# Altium schematic symbol library SchlibEEG.SchLib: 23 symbols
Pins are listed as number, name and electrical type; pins without a type are passive.

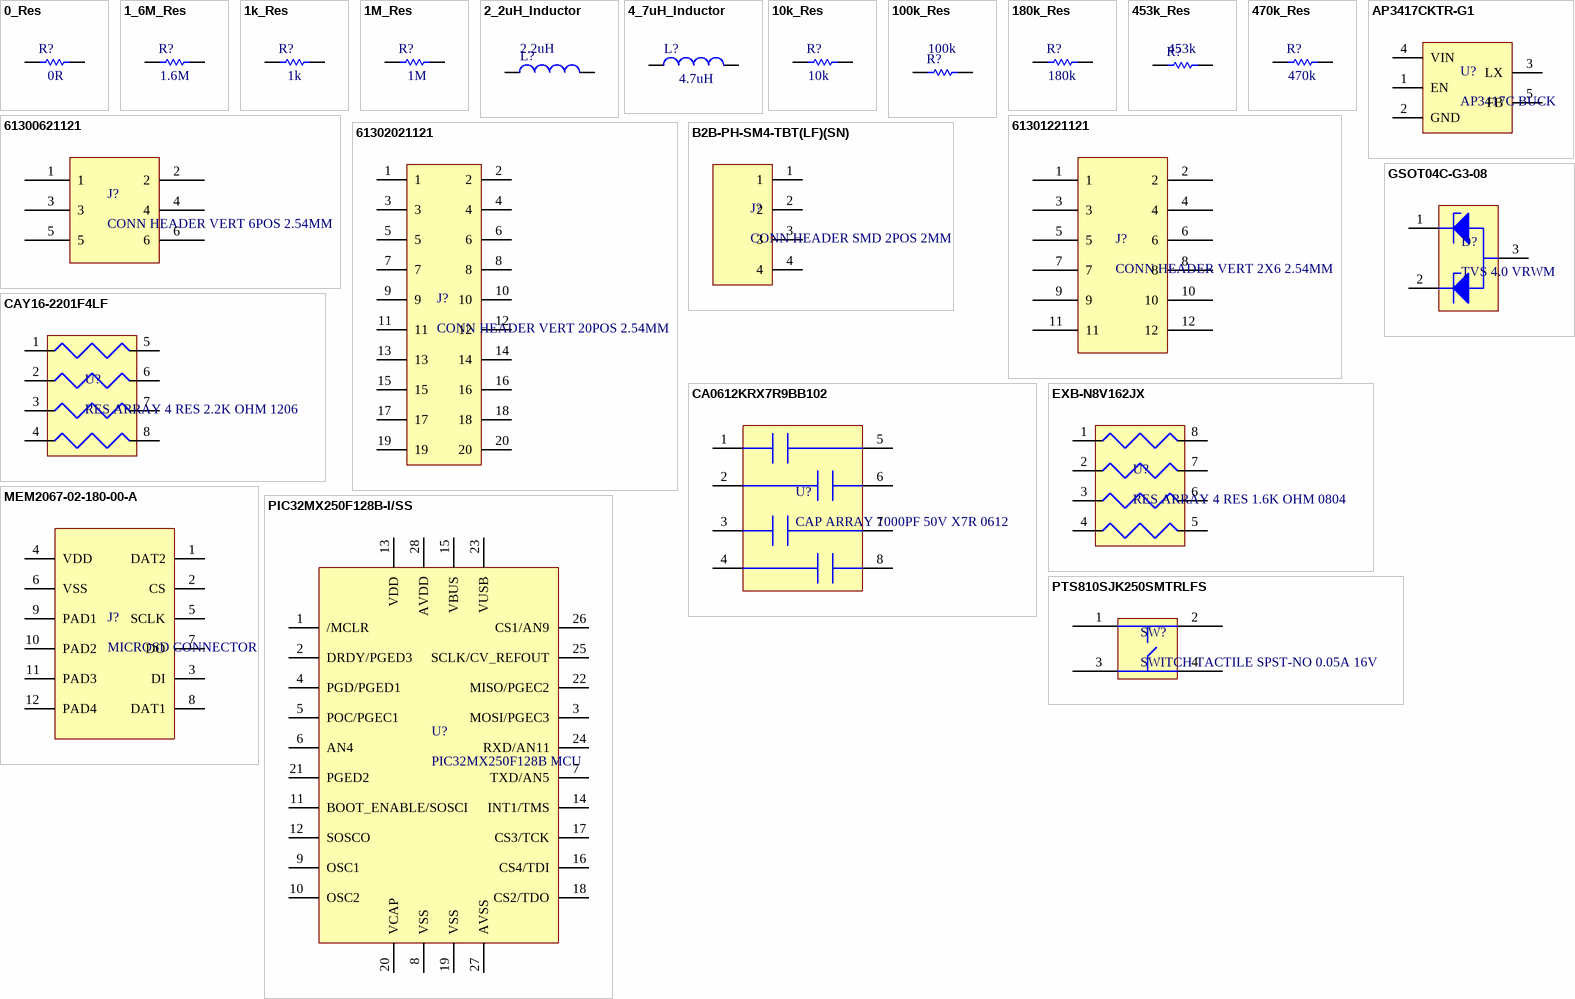
[diagram p0: symbols 0_Res to PTS810SJK250SMTRLFS]

## 0_Res
designator R?  value 0R
RES SMD 0 OHM JUMPER 1/16W 0402; Manufacturer: Yageo; Manufacturer Part Number: RC0402JR-070RL; Resistance: 0mR; Power Rating: 62.5mW; Tolerance: 5%; Voltage Rating: 50V; Max Power Dissipation: 63mW; Temperature Coefficient: 200ppm/°C; Supplier 1: Digi-Key; Stock 1: 50001357; Pricing 1: 1=0.1, 10=0.013, 25=0.0092, 50=0.0072, 100=0.0053, 250=0.004, 500=0.0032, 1000=0.00236, 5000=0.00169 (USD); Case/Package: 0402; Contact Plating: Tin,Matte; Case Code (Metric): 1005; Case Code (Imperial): 0402; Min Operating Temperature: -55°C; Max Operating Temperature: 155°C; Packaging: Tape and Reel; Composition: Thick Film; Package Quantity: 1; Number of Terminations: 2; Termination: SMD/SMT; Military Standard: Not; Features: Moisture Resistant; Length: 1mm; Height: 0.016inch; Width: 0.02inch; Depth: 0.5mm; Radiation Hardening: No; REACH SVHC: Unknown; Lead Free: Lead Free; ComponentLink1URL: http://www.yageo.com/documents/recent/PYu-RC_Group_51_RoHS_L_10.pdf?src-supplier=Digi-Key; ComponentLink1Description: http://www.yageo.com/documents/recent/PYu-RC_Group_51_RoHS_L_10.pdf?src-supplier=Digi-Key; ComponentLink2URL: http://www.yageo.com/documents/recent/PYu-RC0402_51_RoHS_L_6.pdf?src-supplier=Avnet+Europe; ComponentLink2Description: http://www.yageo.com/documents/recent/PYu-RC0402_51_RoHS_L_6.pdf?src-supplier=Avnet+Europe; ComponentLink3URL: http://www.farnell.com/datasheets/1018594.pdf?src-supplier=Element14; ComponentLink3Description: http://www.farnell.com/datasheets/1018594.pdf?src-supplier=Element14; ComponentLink4URL: https://www.verical.com/server-webapp/html/getDatasheet?partID=326379&src-supplier=Verical; ComponentLink4Description: https://www.verical.com/server-webapp/html/getDatasheet?partID=326379&src-supplier=Verical; ComponentLink5URL: http://www.farnell.com/datasheets/2167052.pdf?src-supplier=Element14; ComponentLink5Description: http://www.farnell.com/datasheets/2167052.pdf?src-supplier=Element14; Supplier Part Number 1: 311-0.0JRDKR-ND
simulation model RESISTOR (Resistor)
signal-integrity model Res
footprint 0402resistor
pins: 1, 2

## 1_6M_Res
designator R?  value 1.6M
RES SMD 1.6M OHM 5% 1/16W 0402; Manufacturer: Yageo; Manufacturer Part Number: RC0402JR-071M6L; Resistance: 1.6MR; Max Power Dissipation: 63mW; Temperature Coefficient: 100ppm/°C; Supplier 1: Digi-Key; Stock 1: 10969; Pricing 1: 1=0.1, 10=0.013, 100=0.0053, 1000=0.00236, 2500=0.00205, 5000=0.00169 (USD); Case/Package: 0402; Case Code (Metric): 1005; Case Code (Imperial): 0402; Contact Plating: Tin,Matte; Min Operating Temperature: -55°C; Max Operating Temperature: 155°C; Tolerance: 5%; Packaging: Tape and Reel; Composition: Thick Film; Number of Terminations: 2; Military Standard: Not; Features: Moisture Resistant; Length: 0.039inch; Height: 0.016inch; Width: 0.02inch; Depth: 0.5mm; Radiation Hardening: No; ComponentLink1URL: http://www.yageo.com/documents/recent/PYu-RC0402_51_RoHS_L_6.pdf?src-supplier=Avnet; ComponentLink1Description: http://www.yageo.com/documents/recent/PYu-RC0402_51_RoHS_L_6.pdf?src-supplier=Avnet; ComponentLink2URL: http://www.yageo.com/documents/recent/PYu-RC0402_51_RoHS_L_6.pdf?src-supplier=Avnet+Europe; ComponentLink2Description: http://www.yageo.com/documents/recent/PYu-RC0402_51_RoHS_L_6.pdf?src-supplier=Avnet+Europe; Supplier Part Number 1: YAG3284DKR-ND
simulation model RESISTOR (Resistor)
signal-integrity model Res
footprint 0402resistor
pins: 1, 2

## 1k_Res
designator R?  value 1k
RES SMD 1K OHM 1% 1/16W 0402; Manufacturer: Yageo; Manufacturer Part Number: RC0402FR-071KL; Resistance: 1kR; Power Rating: 62.5mW; Voltage Rating: 50V; Temperature Coefficient: 100ppm/°C; Supplier 1: Digi-Key; Stock 1: 39206337; Pricing 1: 1=0.1, 10=0.016, 100=0.0064, 1000=0.00289, 2500=0.00251, 5000=0.00207 (USD); Case/Package: 0402; Number of Pins: 2; Case Code (Imperial): 0402; Case Code (Metric): 1005; Min Operating Temperature: -55°C; Max Operating Temperature: 155°C; Tolerance: 1%; Packaging: Tape and Reel; Composition: Thick Film; Voltage Rating (DC): 50V; Termination: SMD/SMT; Military Standard: Not; Length: 1mm; Height: 0.32mm; Width: 0.5mm; Depth: 0.5mm; REACH SVHC: Unknown; Lead Free: Lead Free; ComponentLink1URL: http://documents.rs-components.com/techlib://itc_doclist_GB.htm?stockno=6186122&src-supplier=RSComponents; ComponentLink1Description: http://documents.rs-components.com/techlib://itc_doclist_GB.htm?stockno=6186122&src-supplier=RSComponents; ComponentLink2URL: http://www.mouser.com/ds/2/447/PYu-RC0402_51_RoHS_L_6_r-8721.pdf?src-supplier=Mouser; ComponentLink2Description: http://www.mouser.com/ds/2/447/PYu-RC0402_51_RoHS_L_6_r-8721.pdf?src-supplier=Mouser; ComponentLink3URL: http://www.yageo.com/documents/recent/PYu-RC0402_51_RoHS_L_6_r.pdf?src-supplier=Future+Electronics; ComponentLink3Description: http://www.yageo.com/documents/recent/PYu-RC0402_51_RoHS_L_6_r.pdf?src-supplier=Future+Electronics; ComponentLink4URL: http://www.farnell.com/datasheets/1018594.pdf?src-supplier=Element14; ComponentLink4Description: http://www.farnell.com/datasheets/1018594.pdf?src-supplier=Element14; ComponentLink5URL: http://www.farnell.com/datasheets/2167052.pdf?src-supplier=Element14; ComponentLink5Description: http://www.farnell.com/datasheets/2167052.pdf?src-supplier=Element14; Supplier Part Number 1: 311-1.00KLRCT-ND
simulation model RESISTOR (Resistor)
signal-integrity model Res
footprint 0402resistor
pins: 1, 2

## 1M_Res
designator R?  value 1M
RES SMD 1M OHM 1% 1/16W 0402; Manufacturer: Yageo; Manufacturer Part Number: RC0402FR-071ML; Resistance: 1MR; Power Rating: 63mW; Voltage Rating: 50V; Temperature Coefficient: 100ppm/°C; Supplier 1: Digi-Key; Stock 1: 10014545; Pricing 1: 1=0.1, 10=0.016, 100=0.0064, 1000=0.00289, 2500=0.00251, 5000=0.00207 (USD); Case/Package: 0402; Case Code (Imperial): 0402; Case Code (Metric): 1005; Min Operating Temperature: -55°C; Max Operating Temperature: 155°C; Packaging: Tape and Reel; Tolerance: 1%; Termination: SMD/SMT; Composition: Thick Film; Military Standard: Not; Length: 1mm; Height: 0.32mm; Depth: 0.5mm; REACH SVHC: Unknown; Lead Free: Lead Free; ComponentLink1URL: http://www.farnell.com/datasheets/1018594.pdf?src-supplier=Element14; ComponentLink1Description: http://www.farnell.com/datasheets/1018594.pdf?src-supplier=Element14; ComponentLink2URL: http://www.yageo.com/documents/recent/PYu-RC0402_51_RoHS_L_6_r.pdf?src-supplier=Future+Electronics; ComponentLink2Description: http://www.yageo.com/documents/recent/PYu-RC0402_51_RoHS_L_6_r.pdf?src-supplier=Future+Electronics; ComponentLink3URL: http://www.farnell.com/datasheets/2167052.pdf?src-supplier=Element14; ComponentLink3Description: http://www.farnell.com/datasheets/2167052.pdf?src-supplier=Element14; Supplier Part Number 1: 311-1.00MLRCT-ND
simulation model RESISTOR (Resistor)
signal-integrity model Res
footprint 0402resistor
pins: 1, 2

## 2_2uH_Inductor
designator L?  value 2.2uH
FIXED IND 2.2UH 500MA 250 MOHM; Manufacturer: TDK; Manufacturer Part Number: MLZ1608A2R2WT000; Core Material: Ferrite; Tolerance: 20%; Saturation Current: 130mA; Shielding: Shielded; DC Resistance (DCR): 325mR; Self Resonant Frequency: 120MHz; Test Frequency: 10MHz; Supplier 1: Digi-Key; Stock 1: 11492; Pricing 1: 1=0.17, 10=0.155, 100=0.1035, 500=0.08626, 1000=0.07245 (USD); Mount: Surface Mount; Case/Package: 0603; Case Code (Metric): 1608; Case Code (Imperial): 0603; Min Operating Temperature: -55°C; Max Operating Temperature: 125°C; Package Quantity: 4000; Packaging: Tape and Reel; Current Rating: 500mA; Inductance: 2.2uH; Length: 0.063inch; Width: 0.031inch; Height - Seated (Max): 0.037inch; Lead Free: Lead Free; ComponentLink1URL: https://product.tdk.com/info/en/catalog/datasheets/inductor_commercial_decoupling_mlz1608_en.pdf?src-supplier=Digi-Key; ComponentLink1Description: https://product.tdk.com/info/en/catalog/datasheets/inductor_commercial_decoupling_mlz1608_en.pdf?src-supplier=Digi-Key; Supplier Part Number 1: 445-6385-6-ND
simulation model INDUCTOR (Inductor)
signal-integrity model Inductor
footprint 0603INDUCTOR
pins: 1, 2

## 4_7uH_Inductor
designator L?  value 4.7uH
Inductor; Manufacturer: TDK; Manufacturer Part Number: MLZ1608M4R7WT000; Core Material: Ferrite; Tolerance: 20%; Current Rating: 350mA; Saturation Current: 120mA; Shielding: Shielded; DC Resistance (DCR): 650mR; Test Frequency: 2MHz; Self Resonant Frequency: 80MHz; Supplier 1: Digi-Key; Stock 1: 1557; Pricing 1: 1=0.17, 10=0.155, 100=0.1035, 500=0.08626, 1000=0.07245 (USD); Mount: Surface Mount; Case/Package: 0603; Case Code (Metric): 1608; Case Code (Imperial): 0603; Min Operating Temperature: -55°C; Max Operating Temperature: 125°C; Package Quantity: 4000; Packaging: Tape and Reel; Inductance: 4.7uH; Length: 0.063inch; Width: 0.031inch; Height - Seated (Max): 0.037inch; ComponentLink1URL: https://product.tdk.com/info/en/catalog/datasheets/inductor_commercial_decoupling_mlz1608_en.pdf?src-supplier=Digi-Key; ComponentLink1Description: https://product.tdk.com/info/en/catalog/datasheets/inductor_commercial_decoupling_mlz1608_en.pdf?src-supplier=Digi-Key; Supplier Part Number 1: 445-6390-6-ND
simulation model INDUCTOR (Inductor)
signal-integrity model Inductor
footprint 0603INDUCTOR
pins: 1, 2

## 10k_Res
designator R?  value 10k
RES SMD 10K OHM 1% 1/16W 0402; Manufacturer: Yageo; Manufacturer Part Number: RC0402FR-0710KL; Resistance: 10kR; Temperature Coefficient: 100ppm/°C; Voltage Rating: 50V; Power Rating: 62.5mW; Supplier 1: Digi-Key; Stock 1: 49944724; Pricing 1: 1=0.1, 10=0.016, 100=0.0064, 1000=0.00289, 2500=0.00251, 5000=0.00207 (USD); Case/Package: 0402; Number of Pins: 2; Case Code (Imperial): 0402; Case Code (Metric): 1005; Min Operating Temperature: -55°C; Max Operating Temperature: 155°C; Tolerance: 1%; Packaging: Tape and Reel; Composition: Thick Film; Voltage Rating (DC): 50V; Termination: SMD/SMT; Military Standard: Not; Working Voltage: 50V; Number of Terminations: 2; Length: 1mm; Height: 0.32mm; Width: 0.5mm; Depth: 0.5mm; Lead Pitch: 0.2mm; REACH SVHC: No SVHC; Lead Free: Lead Free; ComponentLink1URL: http://www.farnell.com/datasheets/2167052.pdf?src-supplier=Element14; ComponentLink1Description: http://www.farnell.com/datasheets/2167052.pdf?src-supplier=Element14; ComponentLink2URL: http://www.farnell.com/datasheets/1686128.pdf?src-supplier=Element14; ComponentLink2Description: http://www.farnell.com/datasheets/1686128.pdf?src-supplier=Element14; ComponentLink3URL: http://www.farnell.com/datasheets/1784430.pdf?src-supplier=Element14; ComponentLink3Description: http://www.farnell.com/datasheets/1784430.pdf?src-supplier=Element14; ComponentLink4URL: http://www.yageo.com/documents/recent/PYu-RC_Group_51_RoHS_L_9.pdf?src-supplier=Mouser; ComponentLink4Description: http://www.yageo.com/documents/recent/PYu-RC_Group_51_RoHS_L_9.pdf?src-supplier=Mouser; Supplier Part Number 1: 311-10.0KLRCT-ND
simulation model RESISTOR (Resistor)
signal-integrity model Res
footprint 0402resistor
pins: 1, 2

## 100k_Res
designator R?  value 100k
RES SMD 100K OHM 1% 1/16W 0402; Manufacturer: Yageo; Manufacturer Part Number: RC0402FR-07100KL; Resistance: 100kR; Temperature Coefficient: 100ppm/°C; Power Rating: 63mW; Voltage Rating: 50V; Published: 8-Jun-2000; LatestRevisionDate: 17-Jul-2002; LatestRevisionNote: Re-released for DXP Platform.; PackageReference: AXIAL-0.3; Publisher: Altium Limited; PackageDescription: Axial Device, Thru-Hole; 2 Leads; 0.3 in Pin Spacing; Supplier 1: Digi-Key; Stock 1: 46714463; Pricing 1: 1=0.1, 10=0.016, 100=0.0064, 1000=0.00289, 2500=0.00251, 5000=0.00207 (USD); Case/Package: 0402; Case Code (Metric): 1005; Case Code (Imperial): 0402; Min Operating Temperature: -55°C; Max Operating Temperature: 155°C; Tolerance: 1%; Packaging: Tape and Reel; Composition: Thick Film; Termination: SMD/SMT; Military Standard: Not; Number of Terminations: 2; Working Voltage: 50V; Package Quantity: 1; Max Power Dissipation: 63mW; Features: Moisture Resistant; Length: 0.039inch; Height: 0.016inch; Width: 0.02inch; Depth: 0.5mm; REACH SVHC: No SVHC; Lead Free: Lead Free; ComponentLink1URL: http://www.yageo.com/documents/recent/PYu-RC_Group_51_RoHS_L_10.pdf?src-supplier=Digi-Key; ComponentLink1Description: http://www.yageo.com/documents/recent/PYu-RC_Group_51_RoHS_L_10.pdf?src-supplier=Digi-Key; ComponentLink2URL: http://www.farnell.com/datasheets/1018594.pdf?src-supplier=Element14; ComponentLink2Description: http://www.farnell.com/datasheets/1018594.pdf?src-supplier=Element14; ComponentLink3URL: http://www.yageo.com/documents/recent/PYu-RC_Group_51_RoHS_L_9.pdf?src-supplier=Verical; ComponentLink3Description: http://www.yageo.com/documents/recent/PYu-RC_Group_51_RoHS_L_9.pdf?src-supplier=Verical; ComponentLink4URL: http://www.yageo.com/documents/recent/PYu-RC_Group_51_RoHS_L_9.pdf?src-supplier=Mouser; ComponentLink4Description: http://www.yageo.com/documents/recent/PYu-RC_Group_51_RoHS_L_9.pdf?src-supplier=Mouser; ComponentLink5URL: http://documents.rs-components.com/techlib://itc_doclist_GB.htm?stockno=6185797&src-supplier=RSComponents; ComponentLink5Description: http://documents.rs-components.com/techlib://itc_doclist_GB.htm?stockno=6185797&src-supplier=RSComponents; Supplier Part Number 1: 311-100KLRCT-ND
simulation model RESISTOR (Resistor)
signal-integrity model Res
footprint 0402resistor
pins: 1, 2

## 180k_Res
designator R?  value 180k
RES SMD 180K OHM 5% 1/16W 0402; Manufacturer: Yageo; Manufacturer Part Number: RC0402JR-07180KL; Resistance: 180kR; Power Rating: 63mW; Voltage Rating: 50V; Temperature Coefficient: 100ppm/°C; Supplier 1: Digi-Key; Stock 1: 33910; Pricing 1: 1=0.1, 10=0.013, 100=0.0053, 1000=0.00236, 2500=0.00205, 5000=0.00169 (USD); Case/Package: 0402; Number of Pins: 2; Case Code (Imperial): 0402; Case Code (Metric): 1005; Min Operating Temperature: -55°C; Max Operating Temperature: 155°C; Tolerance: 5%; Voltage Rating (DC): 50V; Packaging: Tape and Reel; Package Quantity: 1; Termination: SMD/SMT; Composition: Thick Film; Number of Terminations: 2; Military Standard: Not; Max Power Dissipation: 63mW; Features: Moisture Resistant; Length: 1mm; Height: 0.016inch; Width: 0.5mm; Depth: 0.5mm; REACH SVHC: Unknown; Lead Free: Lead Free; ComponentLink1URL: http://www.farnell.com/datasheets/1018594.pdf?src-supplier=Farnell; ComponentLink1Description: http://www.farnell.com/datasheets/1018594.pdf?src-supplier=Farnell; ComponentLink2URL: http://www.yageo.com/documents/recent/PYu-RC0402_51_RoHS_L_6_r.pdf?src-supplier=Future+Electronics; ComponentLink2Description: http://www.yageo.com/documents/recent/PYu-RC0402_51_RoHS_L_6_r.pdf?src-supplier=Future+Electronics; ComponentLink3URL: http://www.farnell.com/datasheets/1018594.pdf?src-supplier=Element14; ComponentLink3Description: http://www.farnell.com/datasheets/1018594.pdf?src-supplier=Element14; ComponentLink4URL: http://www.yageo.com/documents/recent/PYu-RC_Group_51_RoHS_L_9.pdf?src-supplier=Digi-Key; ComponentLink4Description: http://www.yageo.com/documents/recent/PYu-RC_Group_51_RoHS_L_9.pdf?src-supplier=Digi-Key; ComponentLink5URL: http://www.yageo.com.tw/exep/pages/download/literatures/PYu-R_INT-thick_7.pdf?src-supplier=Digi-Key; ComponentLink5Description: http://www.yageo.com.tw/exep/pages/download/literatures/PYu-R_INT-thick_7.pdf?src-supplier=Digi-Key; Supplier Part Number 1: 311-180KJRDKR-ND
simulation model RESISTOR (Resistor)
signal-integrity model Res
footprint 0402resistor
pins: 1, 2

## 453k_Res
designator R?  value 453k
RES SMD 453K OHM 1% 1/16W 0402; Manufacturer: Yageo; Manufacturer Part Number: RC0402FR-07453KL; Description: Thick Film Resistors - SMD 453K OHM 1%; Resistance: 453kR; Power Rating: 62.5mW; Voltage Rating: 50V; Max Power Dissipation: 63mW; Temperature Coefficient: 100ppm/°C; Supplier 1: Digi-Key; Stock 1: 641723; Pricing 1: 1=0.1, 10=0.016, 100=0.0064, 1000=0.00289, 2500=0.00251, 5000=0.00207 (USD); Case/Package: 0402; Case Code (Imperial): 0402; Case Code (Metric): 1005; Contact Plating: Tin,Matte; Min Operating Temperature: -55°C; Max Operating Temperature: 155°C; Tolerance: 1%; Packaging: Tape and Reel; Composition: Thick Film; Number of Terminations: 2; Termination: SMD/SMT; Military Standard: Not; Voltage Rating (DC): 50V; Features: Moisture Resistant; Length: 1mm; Height: 0.016inch; Width: 0.02inch; Depth: 0.5mm; Lead Free: Lead Free; ComponentLink1URL: http://www.yageo.com/documents/recent/PYu-RC0402_51_RoHS_L_6_r.pdf?src-supplier=Future+Electronics; ComponentLink1Description: http://www.yageo.com/documents/recent/PYu-RC0402_51_RoHS_L_6_r.pdf?src-supplier=Future+Electronics; ComponentLink2URL: https://www.verical.com/server-webapp/html/getDatasheet?partID=325135&src-supplier=Verical; ComponentLink2Description: https://www.verical.com/server-webapp/html/getDatasheet?partID=325135&src-supplier=Verical; ComponentLink3URL: http://www.yageo.com/documents/recent/PYu-RC0402_51_RoHS_L_6.pdf?src-supplier=Avnet; ComponentLink3Description: http://www.yageo.com/documents/recent/PYu-RC0402_51_RoHS_L_6.pdf?src-supplier=Avnet; ComponentLink4URL: http://www.yageo.com/documents/recent/PYu-RC0402_51_RoHS_L_6.pdf?src-supplier=Avnet+Europe; ComponentLink4Description: http://www.yageo.com/documents/recent/PYu-RC0402_51_RoHS_L_6.pdf?src-supplier=Avnet+Europe; Supplier Part Number 1: YAG3164DKR-ND
simulation model RESISTOR (Resistor)
signal-integrity model Res
footprint 0402resistor
pins: 1, 2

## 470k_Res
designator R?  value 470k
RES SMD 470K OHM 5% 1/16W 0402; Manufacturer: Yageo; Manufacturer Part Number: RC0402JR-07470KL; Power Rating: 62.5mW; Voltage Rating: 50V; Temperature Coefficient: 100ppm/°C; Max Power Dissipation: 63mW; Resistance: 470kR; Supplier 1: Digi-Key; Stock 1: 1646167; Pricing 1: 1=0.1, 10=0.013, 100=0.0053, 1000=0.00236, 2500=0.00205, 5000=0.00169 (USD); Case/Package: 0402; Case Code (Metric): 1005; Case Code (Imperial): 0402; Min Operating Temperature: -55°C; Max Operating Temperature: 155°C; Package Quantity: 10000; Tolerance: 5%; Packaging: Tape and Reel; Composition: Thick Film; Number of Terminations: 2; Termination: SMD/SMT; Military Standard: Not; Working Voltage: 50V; Features: Moisture Resistant; Length: 1mm; Height: 0.016inch; Width: 0.02inch; Depth: 0.5mm; REACH SVHC: No SVHC; Lead Free: Lead Free; ComponentLink1URL: http://www.yageo.com/documents/recent/PYu-RC_Group_51_RoHS_L_10.pdf?src-supplier=Digi-Key; ComponentLink1Description: http://www.yageo.com/documents/recent/PYu-RC_Group_51_RoHS_L_10.pdf?src-supplier=Digi-Key; ComponentLink2URL: http://www.farnell.com/datasheets/2167052.pdf?src-supplier=Element14; ComponentLink2Description: http://www.farnell.com/datasheets/2167052.pdf?src-supplier=Element14; ComponentLink3URL: http://www.yageo.com/documents/recent/PYu-RC_Group_51_RoHS_L_9.pdf?src-supplier=Digi-Key; ComponentLink3Description: http://www.yageo.com/documents/recent/PYu-RC_Group_51_RoHS_L_9.pdf?src-supplier=Digi-Key; ComponentLink4URL: http://www.mouser.com/ds/2/447/PYu-RC0402_51_RoHS_L_6_r-8721.pdf?src-supplier=Mouser; ComponentLink4Description: http://www.mouser.com/ds/2/447/PYu-RC0402_51_RoHS_L_6_r-8721.pdf?src-supplier=Mouser; Supplier Part Number 1: 311-470KJRDKR-ND
simulation model RESISTOR (Resistor)
signal-integrity model Res
footprint 0402resistor
pins: 1, 2

## 61300621121
designator J?, comment CONN HEADER VERT 6POS 2.54MM
WURTH ELEKTRONIK         61300621121            Board-To-Board Connector, Vertical, WR-PHD Series, Through Hole, Header, 6 Contacts, 2.54 mm; Manufacturer: Wurth Electronics; Number of Positions: 6; Gender: Male; Connector Type: Male Pin; Pitch: 0.1inch; Supplier 1: Digi-Key; Manufacturer Part Number: 61300621121; Stock 1: 2655; Pricing 1: 1=0.54, 10=0.454, 25=0.3792, 50=0.316, 100=0.287, 1000=0.261 (USD); Mount: Through Hole; Contact Plating: Gold; Contact Material: Copper; Color: Black; Number of Rows: 2; Packaging: Bulk; Termination: Solder; Number of Contacts: 6; Row Spacing: 0.1inch; Contact Mating Length: 0.236inch; REACH SVHC: Unknown; ComponentLink1URL: http://www.farnell.com/datasheets/1442180.pdf?src-supplier=Element14; ComponentLink1Description: http://www.farnell.com/datasheets/1442180.pdf?src-supplier=Element14; Supplier Part Number 1: 732-5295-ND
footprint 6pin_Header
pins: 1, 2, 3, 4, 5, 6

## 61301221121
designator J?, comment CONN HEADER VERT 2X6 2.54MM
WURTH ELEKTRONIK   61301221121   HEADER, 2.54MM, PIN, THT, VERT, 12WAY; Manufacturer: Wurth Electronics; Number of Positions: 12; Gender: Male; Connector Type: Male Pin; Pitch: 0.1inch; Supplier 1: Digi-Key; Manufacturer Part Number: 61301221121; Stock 1: 1960; Pricing 1: 1=0.78, 10=0.663, 25=0.5532, 50=0.461, 100=0.419, 1000=0.381 (USD); Mount: Through Hole; Contact Plating: Gold; Contact Material: Copper; Color: Black; Number of Rows: 2; Packaging: Bulk; Termination: Solder; Number of Contacts: 12; Row Spacing: 0.1inch; Contact Mating Length: 0.236inch; REACH SVHC: Unknown; ComponentLink1URL: http://www.farnell.com/datasheets/1442180.pdf?src-supplier=Element14; ComponentLink1Description: http://www.farnell.com/datasheets/1442180.pdf?src-supplier=Element14; ComponentLink2URL: https://katalog.we-online.de/em/datasheet/6130xx21121.pdf?src-supplier=Digi-Key; ComponentLink2Description: https://katalog.we-online.de/em/datasheet/6130xx21121.pdf?src-supplier=Digi-Key; ComponentLink3URL: http://www.farnell.com/datasheets/1442180.pdf?src-supplier=Farnell; ComponentLink3Description: http://www.farnell.com/datasheets/1442180.pdf?src-supplier=Farnell; ComponentLink4URL: http://www.farnell.com/datasheets/1442180.pdf?src-supplier=Newark; ComponentLink4Description: http://www.farnell.com/datasheets/1442180.pdf?src-supplier=Newark; Supplier Part Number 1: 732-5297-ND
pins: 1, 2, 3, 4, 5, 6, 7, 8, 9, 10, 11, 12

## 61302021121
designator J?, comment CONN HEADER VERT 20POS 2.54MM
WURTH ELEKTRONIK         61302021121            Board-To-Board Connector, Vertical, WR-PHD Series, Through Hole, Header, 20 Contacts, 2.54 mm; Manufacturer: Wurth Electronics; Number of Positions: 20; Gender: Male; Connector Type: Male Pin; Pitch: 0.1inch; Supplier 1: Digi-Key; Manufacturer Part Number: 61302021121; Stock 1: 1836; Pricing 1: 1=1.31, 10=1.115, 25=0.9292, 50=0.774, 100=0.704, 500=0.64 (USD); Mount: Through Hole; Contact Plating: Gold; Contact Material: Copper; Color: Black; Number of Rows: 2; Packaging: Bulk; Termination: Solder; Number of Contacts: 20; Row Spacing: 0.1inch; Contact Mating Length: 0.236inch; REACH SVHC: Unknown; ComponentLink1URL: http://www.farnell.com/datasheets/1442180.pdf?src-supplier=Element14; ComponentLink1Description: http://www.farnell.com/datasheets/1442180.pdf?src-supplier=Element14; Supplier Part Number 1: 732-5301-ND
pins: 1, 2, 3, 4, 5, 6, 7, 8, 9, 10, 11, 12, 13, 14, 15, 16, 17, 18, 19, 20

## AP3417CKTR-G1
designator U?, comment AP3417C BUCK
IC REG BUCK ADJ 1A SYNC SOT25; Manufacturer: Diodes; Manufacturer Part Number: AP3417CKTR-G1; Number of Outputs: 1; Min Input Voltage: 2.5V; Max Input Voltage: 5.5V; Efficiency: 94%; Min Output Voltage: 600mV; Max Output Voltage: 4.95V; Switching Frequency: 1.5MHz; Synchronous Rectifier: Yes; Output Voltage: 5V; Operating Supply Current: 220uA; Output Type: Adjustable; Output Configuration: Positive; Supplier 1: Digi-Key; Stock 1: 30373; Pricing 1: 1=0.41, 10=0.351, 100=0.2621, 500=0.20592, 1000=0.15912 (USD); Mount: Surface Mount; Case/Package: SOT-23-5; Number of Pins: 5; Weight: 0.001058oz; Min Operating Temperature: -40°C; Max Operating Temperature: 85°C; Package Quantity: 3000; Packaging: Tape and Reel; Max Output Current: 1A; Output Current: 1A; Min Supply Voltage: 2.5V; Operating Supply Voltage: 5.5V; Length: 3.1mm; Height: 1.3mm; Width: 1.7mm; Lead Free: Lead Free; ComponentLink1URL: https://www.diodes.com/assets/Datasheets/AP3417C.pdf?src-supplier=Digi-Key; ComponentLink1Description: https://www.diodes.com/assets/Datasheets/AP3417C.pdf?src-supplier=Digi-Key; ComponentLink2URL: http://www.diodes.com/datasheets/AP3417C.pdf?src-supplier=Avnet; ComponentLink2Description: http://www.diodes.com/datasheets/AP3417C.pdf?src-supplier=Avnet; Supplier Part Number 1: AP3417CKTR-G1DIDKR-ND
pins: 1 EN, 2 GND, 3 LX, 4 VIN, 5 FB

## B2B-PH-SM4-TBT(LF)(SN)
designator J?, comment CONN HEADER SMD 2POS 2MM
Manufacturer: JST; Manufacturer Part Number: B2B-PH-SM4-TBT(LF)(SN); Number of Positions: 2; Connector Type: Male Pin; Pitch: 0.079inch; Supplier 1: Digi-Key; Stock 1: 6672; Pricing 1: 1=0.82, 10=0.768, 100=0.5888, 500=0.51202 (USD); Mount: Surface Mount; Color: Natural; Contact Plating: Tin; Packaging: Cut Tape; Number of Rows: 1; Package Quantity: 1; Fastening Type: Detent; Termination: Solder; Contact Mating Length: 0.13inch; Lead Free: Lead Free; ComponentLink1URL: https://www.verical.com/server-webapp/html/getDatasheet?partID=473167&src-supplier=Verical; ComponentLink1Description: https://www.verical.com/server-webapp/html/getDatasheet?partID=473167&src-supplier=Verical; ComponentLink2URL: http://www.jst-mfg.com/product/pdf/eng/ePH.pdf?src-supplier=Digi-Key; ComponentLink2Description: http://www.jst-mfg.com/product/pdf/eng/ePH.pdf?src-supplier=Digi-Key; Supplier Part Number 1: 455-2872-6-ND
pins: 1, 2, 3, 4

## CA0612KRX7R9BB102
designator U?, comment CAP ARRAY 1000PF 50V X7R 0612
YAGEO (PHYCOMP)         CA0612KRX7R9BB102             Capacitor Array, C-Array, 1000 pF, 50 V,  10%, SMD, 4 Element; Dielectric Material: Ceramic; Capacitance: 1nF; Number of Elements: 4; Circuit Type: Isolated; Dissipation Factor: 2.5%; Insulation Resistance: 10GR; Supplier 1: Digi-Key; Manufacturer: Yageo; Manufacturer Part Number: CA0612KRX7R9BB102; Stock 1: 2369; Pricing 1: 1=0.41, 10=0.283, 100=0.1697, 500=0.12728, 1000=0.10749 (USD); Mount: Surface Mount; Case/Package: 0612; Case Code (Metric): 1632; Case Code (Imperial): 0612; Number of Terminals: 8; Min Operating Temperature: -55°C; Max Operating Temperature: 125°C; Tolerance: 10%; Voltage Rating: 50V; Packaging: Tape and Reel; Package Quantity: 4000; Dielectric: X7R; Number of Capacitors: 4; Termination: SMD/SMT; Composition: Ceramic; Voltage: 50V; Length: 3.2mm; Height: 0.8mm; Width: 0.063inch; Height - Seated (Max): 0.035inch; Terminal Pitch: 0.8mm; Depth: 3.2mm; Radiation Hardening: No; REACH SVHC: Unknown; Lead Free: Lead Free; ComponentLink1URL: https://www.verical.com/server-webapp/html/getDatasheet?partID=403419&src-supplier=Verical; ComponentLink1Description: https://www.verical.com/server-webapp/html/getDatasheet?partID=403419&src-supplier=Verical; ComponentLink2URL: http://www.yageo.com/documents/recent/UPY-4C-Array_16V-to-50V-3.pdf?src-supplier=Digi-Key; ComponentLink2Description: http://www.yageo.com/documents/recent/UPY-4C-Array_16V-to-50V-3.pdf?src-supplier=Digi-Key; ComponentLink3URL: http://www.farnell.com/datasheets/2167451.pdf?src-supplier=Element14; ComponentLink3Description: http://www.farnell.com/datasheets/2167451.pdf?src-supplier=Element14; ComponentLink4URL: http://www.yageo.com/documents/recent/UPY-4C-Array_16V-to-50V_4.pdf?src-supplier=Future+Electronics; ComponentLink4Description: http://www.yageo.com/documents/recent/UPY-4C-Array_16V-to-50V_4.pdf?src-supplier=Future+Electronics; Supplier Part Number 1: 311-2073-6-ND
pins: 1, 2, 3, 4, 5, 6, 7, 8

## CAY16-2201F4LF
designator U?, comment RES ARRAY 4 RES 2.2K OHM 1206
BOURNS         CAY16-2201F4LF             RESISTOR, ARRAY-4, 2.2KOHM, 5%, SMD; Resistance: 2.2kR; Tolerance: 1%; Power Rating: 248mW; Voltage Rating: 50V; Number of Elements: 4; Circuit Type: Isolated; Power Per Element: 62.5mW; Temperature Coefficient: 200ppm/°C; Supplier 1: Digi-Key; Manufacturer: Bourns; Manufacturer Part Number: CAY16-2201F4LF; Stock 1: 16204; Pricing 1: 1=0.14, 10=0.121, 25=0.088, 50=0.0638, 100=0.0473, 250=0.03632, 500=0.0286, 1000=0.0198 (USD); Mount: Surface Mount; Case/Package: 1206; Number of Pins: 8; Case Code (Metric): 3216; Case Code (Imperial): 1206; Number of Terminals: 8; Contact Plating: Tin; Min Operating Temperature: -55°C; Max Operating Temperature: 125°C; Packaging: Tape and Reel; Package Quantity: 1; Number of Resistors: 4; Termination: Convex; Military Standard: Not; Voltage Rating (DC): 50V; Number of Circuits: 4; Length: 3.2mm; Height: 0.024inch; Width: 0.063inch; Lead Pitch: 0.8mm; Terminal Pitch: 0.8mm; Depth: 1.6mm; REACH SVHC: No SVHC; Lead Free: Lead Free; ComponentLink1URL: http://uk.rs-online.com/webdocs/064e/0900766b8064e462.pdf?src-supplier=RSComponents; ComponentLink1Description: http://uk.rs-online.com/webdocs/064e/0900766b8064e462.pdf?src-supplier=RSComponents; ComponentLink2URL: http://www.bourns.com/pdfs/CATCAY.pdf?src-supplier=Avnet+Europe; ComponentLink2Description: http://www.bourns.com/pdfs/CATCAY.pdf?src-supplier=Avnet+Europe; ComponentLink3URL: http://www.bourns.com/docs/Product-Datasheets/CATCAY.pdf?src-supplier=Digi-Key; ComponentLink3Description: http://www.bourns.com/docs/Product-Datasheets/CATCAY.pdf?src-supplier=Digi-Key; ComponentLink4URL: http://www.bourns.com/pdfs/CATCAY.pdf?src-supplier=Avnet; ComponentLink4Description: http://www.bourns.com/pdfs/CATCAY.pdf?src-supplier=Avnet; ComponentLink5URL: http://www.farnell.com/datasheets/1849489.pdf?src-supplier=Element14; ComponentLink5Description: http://www.farnell.com/datasheets/1849489.pdf?src-supplier=Element14; ComponentLink6URL: https://www.bourns.com/docs/Product-Datasheets/CATCAY.pdf?src-supplier=Digi-Key; ComponentLink6Description: https://www.bourns.com/docs/Product-Datasheets/CATCAY.pdf?src-supplier=Digi-Key; ComponentLink7URL: http://www.produktinfo.conrad.com/datenblaetter/1000000-1099999/001055385-da-01-en-WID_ARR_CAY16_2201F4LF_2_2K_OHM_4_W_1206.pdf?src-supplier=Conrad; ComponentLink7Description: http://www.produktinfo.conrad.com/datenblaetter/1000000-1099999/001055385-da-01-en-WID_ARR_CAY16_2201F4LF_2_2K_OHM_4_W_1206.pdf?src-supplier=Conrad; Supplier Part Number 1: CAY16-2201F4LFDKR-ND
pins: 1, 2, 3, 4, 5, 6, 7, 8

## EXB-N8V162JX
designator U?, comment RES ARRAY 4 RES 1.6K OHM 0804
Manufacturer: Panasonic; Manufacturer Part Number: EXB-N8V162JX; Tolerance: 5%; Voltage Rating: 50V; Resistance: 1.6kR; Circuit Type: Isolated; Number of Resistors: 4; Power Per Element: 31mW; Temperature Coefficient: 200ppm/°C; Number of Contacts: 8; Voltage Rating (DC): 100V; Supplier 1: Digi-Key; Stock 1: 21369; Pricing 1: 1=0.11, 10=0.094, 25=0.0652, 50=0.0508, 100=0.0363, 250=0.02832, 500=0.0225, 1000=0.01597, 5000=0.01234 (USD); Mount: Surface Mount; Case/Package: 0402; Number of Pins: 8; Number of Terminals: 8; Min Operating Temperature: -55°C; Max Operating Temperature: 125°C; Packaging: Tape and Reel; Package Quantity: 1; Termination: SMD/SMT; Length: 0.079inch; Height: 0.022inch; Width: 1mm; Terminal Pitch: 0.5mm; Radiation Hardening: No; Lead Free: Contains Lead; ComponentLink1URL: http://www.mouser.com/ds/2/315/AOC0000CE1-49292.pdf?src-supplier=Mouser; ComponentLink1Description: http://www.mouser.com/ds/2/315/AOC0000CE1-49292.pdf?src-supplier=Mouser; ComponentLink2URL: http://industrial.panasonic.com/www-data/pdf/AOC0000/AOC0000CE1.pdf?src-supplier=Avnet; ComponentLink2Description: http://industrial.panasonic.com/www-data/pdf/AOC0000/AOC0000CE1.pdf?src-supplier=Avnet; ComponentLink3URL: http://www.onlinecomponents.com/datasheet/exb-n8v162jx.aspx?p=44463680&src-supplier=Onlinecomponents.com; ComponentLink3Description: http://www.onlinecomponents.com/datasheet/exb-n8v162jx.aspx?p=44463680&src-supplier=Onlinecomponents.com; ComponentLink4URL: https://industrial.panasonic.com/cdbs/www-data/pdf/AOC0000/AOC0000C14.pdf?src-supplier=Digi-Key; ComponentLink4Description: https://industrial.panasonic.com/cdbs/www-data/pdf/AOC0000/AOC0000C14.pdf?src-supplier=Digi-Key; Supplier Part Number 1: Y10162DKR-ND
footprint Rarray
pins: 1, 2, 3, 4, 5, 6, 7, 8

## GSOT04C-G3-08
designator D?, comment TVS 4.0 VRWM
TVS Diode Arrays 4.0 Volt 300 Watt Common Anode; Manufacturer: Vishay Semiconductors; Manufacturer Part Number: GSOT04C-G3-08; Capacitance: 200pF; Polarity: Bidirectional; Number of Channels: 2; Breakdown Voltage: 6.1V; Clamping Voltage: 14.3V; Peak Pulse Power: 429W; Reverse Standoff Voltage: 4V; Min Breakdown Voltage: 5V; Power Line Protection: No; Peak Pulse Current: 30A; Supplier 1: Digi-Key; Stock 1: 3725; Pricing 1: 1=0.43, 10=0.324, 25=0.2916, 100=0.1538, 250=0.15224, 500=0.13634, 1000=0.1061 (USD); Mount: Surface Mount; Case/Package: TO-236-3; Weight: 0.00031oz; Min Operating Temperature: -55°C; Max Operating Temperature: 150°C; Packaging: Tape and Reel; Termination: SMD/SMT; Number of Unidirectional Channels: 2; Composition: Zener; ComponentLink1URL: http://www.mouser.com/ds/2/427/gsot03c-243311.pdf?src-supplier=Mouser; ComponentLink1Description: http://www.mouser.com/ds/2/427/gsot03c-243311.pdf?src-supplier=Mouser; ComponentLink2URL: http://www.vishay.com/docs/85824/gsot03c.pdf?src-supplier=Digi-Key; ComponentLink2Description: http://www.vishay.com/docs/85824/gsot03c.pdf?src-supplier=Digi-Key; Supplier Part Number 1: GSOT04C-G3-08GIDKR-ND
pins: 1, 2, 3

## MEM2067-02-180-00-A
designator J?, comment MICROSD CONNECTOR
GLOBAL CONNECTOR TECHNOLOGY         MEM2067-02-180-00-A             MEMORY CARD CONNECTOR, 8 POSITION; Number of Contacts: 8; Supplier 1: Digi-Key; Manufacturer: Global Connector Technology; Manufacturer Part Number: MEM2067-02-180-00-A; Stock 1: 0; Mount: Socket; Contact Material: Copper Alloy; Contact Plating: Gold; REACH SVHC: No SVHC; Lead Free: Lead Free; ComponentLink1URL: http://www.farnell.com/datasheets/1876941.pdf?src-supplier=Element14; ComponentLink1Description: http://www.farnell.com/datasheets/1876941.pdf?src-supplier=Element14; ComponentLink2URL: http://www.farnell.com/datasheets/1876941.pdf?src-supplier=Farnell; ComponentLink2Description: http://www.farnell.com/datasheets/1876941.pdf?src-supplier=Farnell; Supplier Part Number 1: 2073-MEM2067-02-180-00-ACT-ND
pins: 1 DAT2, 2 CS, 3 DI, 4 VDD, 5 SCLK, 6 VSS, 7 DO, 8 DAT1, 9 PAD1, 10 PAD2, 11 PAD3, 12 PAD4

## PIC32MX250F128B-I/SS
designator U?, comment PIC32MX250F128B MCU
MICROCHIP - PIC32MX250F128B-I/SS - MCU, 32BIT, PIC32, 40MHZ, SSOP-28; Number of Timers/Counters: 5; Number of ADC Channels: 10; RAM Size: 32KB; Interface: I2C,SPI,USB,IrDA,UART,USART,LIN,I2S; Number of I/Os: 19; Max Supply Voltage: 3.6V; Min Supply Voltage: 2.3V; Number of UART Channels: 2; Data Bus Width: 32b; Oscillator Type: Internal; Watchdog Timer: Yes; Memory Type: FLASH; Memory Size: 128KB; Peripherals: I2C,Brown-out Detect/Reset,POR,PWM,WDT,DMA; Core Architecture: PIC; Supplier 1: Digi-Key; Manufacturer: Microchip; Manufacturer Part Number: PIC32MX250F128B-I/SS; Stock 1: 861; Pricing 1: 1=3.57, 25=3.27, 100=2.96 (USD); Case/Package: SSOP; Number of Pins: 28; Min Operating Temperature: -40°C; Max Operating Temperature: 85°C; Packaging: Rail/Tube; Package Quantity: 47; Frequency: 40MHz; Number of PWM Channels: 5; Number of Programmable I/O: 19; Max Frequency: 40MHz; Number of SPI Channels: 2; Number of I2C Channels: 2; Address Bus Width: 32b; Length: 10.5mm; Height: 1.85mm; Width: 5.6mm; Radiation Hardening: No; REACH SVHC: No SVHC; Lead Free: Lead Free; ComponentLink1URL: https://www.distrelec.biz/Web/Downloads/_t/ds/PIC32MX1XX_2XX_eng_tds.pdf?mime=application%2Fpdf&src-supplier=Distrelec; ComponentLink1Description: https://www.distrelec.biz/Web/Downloads/_t/ds/PIC32MX1XX_2XX_eng_tds.pdf?mime=application%2Fpdf&src-supplier=Distrelec; ComponentLink2URL: http://uk.rs-online.com/webdocs/1385/0900766b8138557c.pdf?src-supplier=RSComponents; ComponentLink2Description: http://uk.rs-online.com/webdocs/1385/0900766b8138557c.pdf?src-supplier=RSComponents; ComponentLink3URL: http://www.microchip.com/mymicrochip/filehandler.aspx?ddocname=en556114&src-supplier=Digi-Key; ComponentLink3Description: http://www.microchip.com/mymicrochip/filehandler.aspx?ddocname=en556114&src-supplier=Digi-Key; ComponentLink4URL: http://ww1.microchip.com/downloads/en/DeviceDoc/61168D.pdf?src-supplier=Avnet; ComponentLink4Description: http://ww1.microchip.com/downloads/en/DeviceDoc/61168D.pdf?src-supplier=Avnet; ComponentLink5URL: http://www.farnell.com/datasheets/1538023.pdf?src-supplier=Element14; ComponentLink5Description: http://www.farnell.com/datasheets/1538023.pdf?src-supplier=Element14; Supplier Part Number 1: PIC32MX250F128B-I/SS-ND
pins: 1 /MCLR, 2 DRDY/PGED3, 3 MOSI/PGEC3, 4 PGD/PGED1, 5 POC/PGEC1, 6 AN4, 7 TXD/AN5, 8 VSS, 9 OSC1, 10 OSC2, 11 BOOT_ENABLE/SOSCI, 12 SOSCO, 13 VDD, 14 INT1/TMS, 15 VBUS, 16 CS4/TDI, 17 CS3/TCK, 18 CS2/TDO, 19 VSS, 20 VCAP, 21 PGED2, 22 MISO/PGEC2, 23 VUSB, 24 RXD/AN11, 25 SCLK/CV_REFOUT, 26 CS1/AN9, 27 AVSS, 28 AVDD

## PTS810SJK250SMTRLFS
designator SW?, comment SWITCH TACTILE SPST-NO 0.05A 16V
Manufacturer: ITT C&K; Manufacturer Part Number: PTS810SJK250SMTRLFS; Mechanical Life: 50000Cycles; Throw Configuration: SPST; Operating Force: 260gf; Max Current Rating: 50mA; Illumination Type: Non-Illuminated; Switch Travel: 0.15mm; Switch Function: Off-Mom; Actuator Type: Standard; Supplier 1: Digi-Key; Stock 1: 40646; Pricing 1: 1=0.3, 10=0.287, 25=0.2768, 50=0.267, 100=0.2521, 250=0.23728, 500=0.2274, 1000=0.17302 (USD); Mount: Surface Mount; Case/Package: SMD/SMT; Color: White; Contact Plating: Silver; Min Operating Temperature: -40°C; Max Operating Temperature: 85°C; Packaging: Tape and Reel; Current Rating: 50mA; Voltage Rating (DC): 16V; Package Quantity: 2900; Termination: J-Bend; Orientation: Straight; Length: 3.2mm; Depth: 4.6mm; Lead Free: Lead Free; ComponentLink1URL: https://www.ckswitches.com/media/1476/pts810.pdf?src-supplier=Digi-Key; ComponentLink1Description: https://www.ckswitches.com/media/1476/pts810.pdf?src-supplier=Digi-Key; Supplier Part Number 1: CKN10503DKR-ND
pins: 1, 2, 3, 4